# EAGLE library part STM32F4XXIXT (library walkgeek-eagle)
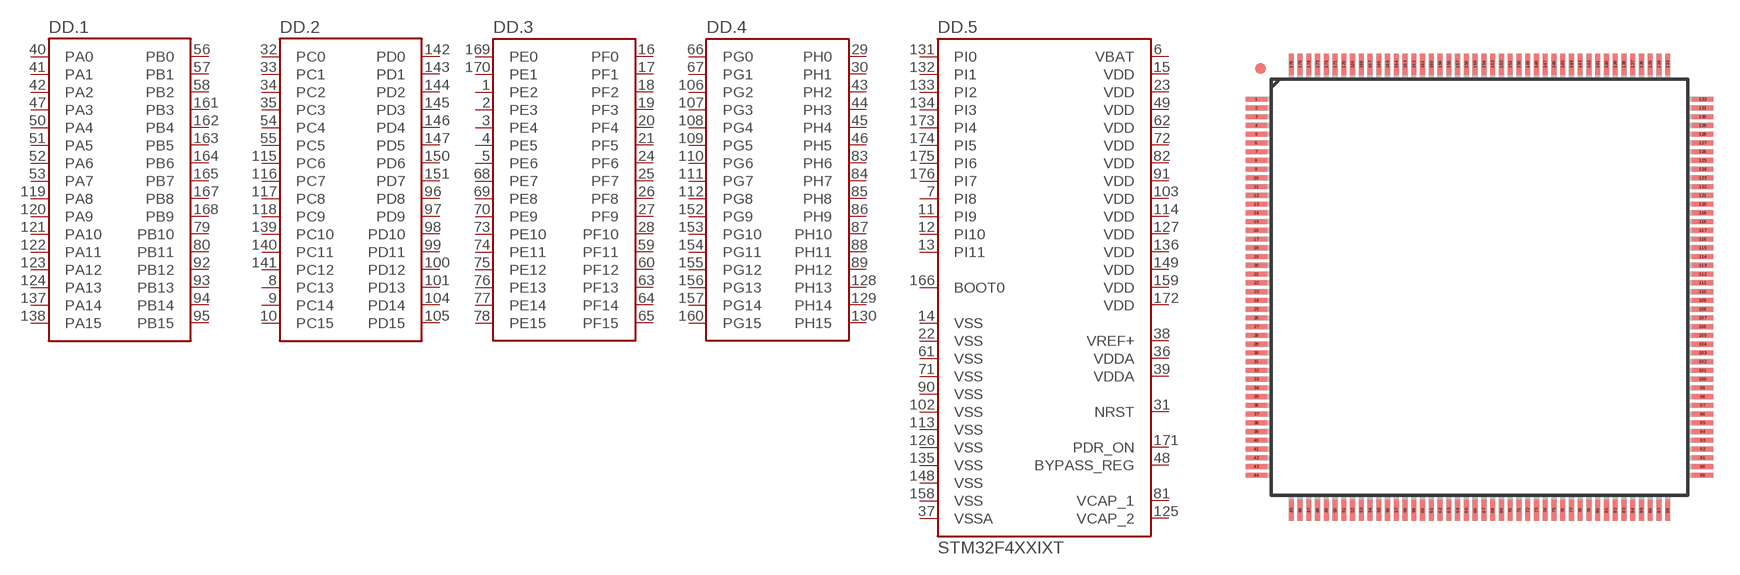
[diagram p7: symbol with the pads of LQFP176; footprint LQFP176]

Designator prefix DD; gates .1=STM32PAPB .2=STM32PCPD .3=STM32PEPF .4=STM32PGPH .5=STM32F4XXIXT_5

## STM32F4XXIXT  [LQFP176]
1  .3:PE2
2  .3:PE3
3  .3:PE4
4  .3:PE5
5  .3:PE6
6  .5:VBAT  pwr
7  .5:PI8
8  .2:PC13
9  .2:PC14
10  .2:PC15
11  .5:PI9
12  .5:PI10
13  .5:PI11
14  .5:VSS  pwr
15  .5:VDD  pwr
16  .3:PF0
17  .3:PF1
18  .3:PF2
19  .3:PF3
20  .3:PF4
21  .3:PF5
22  .5:VSS  pwr
23  .5:VDD  pwr
24  .3:PF6
25  .3:PF7
26  .3:PF8
27  .3:PF9
28  .3:PF10
29  .4:PH0
30  .4:PH1
31  .5:NRST  in
32  .2:PC0
33  .2:PC1
34  .2:PC2
35  .2:PC3
36  .5:VDDA  pwr
37  .5:VSSA  pwr
38  .5:VREF+  in
39  .5:VDDA  pwr
40  .1:PA0
41  .1:PA1
42  .1:PA2
43  .4:PH2
44  .4:PH3
45  .4:PH4
46  .4:PH5
47  .1:PA3
48  .5:BYPASS_REG  in
49  .5:VDD  pwr
50  .1:PA4
51  .1:PA5
52  .1:PA6
53  .1:PA7
54  .2:PC4
55  .2:PC5
56  .1:PB0
57  .1:PB1
58  .1:PB2
59  .3:PF11
60  .3:PF12
61  .5:VSS  pwr
62  .5:VDD  pwr
63  .3:PF13
64  .3:PF14
65  .3:PF15
66  .4:PG0
67  .4:PG1
68  .3:PE7
69  .3:PE8
70  .3:PE9
71  .5:VSS  pwr
72  .5:VDD  pwr
73  .3:PE10
74  .3:PE11
75  .3:PE12
76  .3:PE13
77  .3:PE14
78  .3:PE15
79  .1:PB10
80  .1:PB11
81  .5:VCAP_1  out
82  .5:VDD  pwr
83  .4:PH6
84  .4:PH7
85  .4:PH8
86  .4:PH9
87  .4:PH10
88  .4:PH11
89  .4:PH12
90  .5:VSS  pwr
91  .5:VDD  pwr
92  .1:PB12
93  .1:PB13
94  .1:PB14
95  .1:PB15
96  .2:PD8
97  .2:PD9
98  .2:PD10
99  .2:PD11
100  .2:PD12
101  .2:PD13
102  .5:VSS  pwr
103  .5:VDD  pwr
104  .2:PD14
105  .2:PD15
106  .4:PG2
107  .4:PG3
108  .4:PG4
109  .4:PG5
110  .4:PG6
111  .4:PG7
112  .4:PG8
113  .5:VSS  pwr
114  .5:VDD  pwr
115  .2:PC6
116  .2:PC7
117  .2:PC8
118  .2:PC9
119  .1:PA8
120  .1:PA9
121  .1:PA10
122  .1:PA11
123  .1:PA12
124  .1:PA13
125  .5:VCAP_2  out
126  .5:VSS  pwr
127  .5:VDD  pwr
128  .4:PH13
129  .4:PH14
130  .4:PH15
131  .5:PI0
132  .5:PI1
133  .5:PI2
134  .5:PI3
135  .5:VSS  pwr
136  .5:VDD  pwr
137  .1:PA14
138  .1:PA15
139  .2:PC10
140  .2:PC11
141  .2:PC12
142  .2:PD0
143  .2:PD1
144  .2:PD2
145  .2:PD3
146  .2:PD4
147  .2:PD5
148  .5:VSS  pwr
149  .5:VDD  pwr
150  .2:PD6
151  .2:PD7
152  .4:PG9
153  .4:PG10
154  .4:PG11
155  .4:PG12
156  .4:PG13
157  .4:PG14
158  .5:VSS  pwr
159  .5:VDD  pwr
160  .4:PG15
161  .1:PB3
162  .1:PB4
163  .1:PB5
164  .1:PB6
165  .1:PB7
166  .5:BOOT0  in
167  .1:PB8
168  .1:PB9
169  .3:PE0
170  .3:PE1
171  .5:PDR_ON  in
172  .5:VDD  pwr
173  .5:PI4
174  .5:PI5
175  .5:PI6
176  .5:PI7

## Footprint LQFP176 (pad centres in mm)
LQFP176 Auto generated by make-symbol-device-package-bsdl.ulp Rev. 43
smd 1.2 x 0.26: 1 -12.75,10.75; 2 -12.75,10.25; 3 -12.75,9.75; 4 -12.75,9.25; 5 -12.75,8.75; 6 -12.75,8.25; 7 -12.75,7.75; 8 -12.75,7.25; 9 -12.75,6.75; 10 -12.75,6.25; 11 -12.75,5.75; 12 -12.75,5.25; 13 -12.75,4.75; 14 -12.75,4.25; 15 -12.75,3.75; 16 -12.75,3.25; 17 -12.75,2.75; 18 -12.75,2.25; 19 -12.75,1.75; 20 -12.75,1.25; 21 -12.75,0.75; 22 -12.75,0.25; 23 -12.75,-0.25; 24 -12.75,-0.75; 25 -12.75,-1.25; 26 -12.75,-1.75; 27 -12.75,-2.25; 28 -12.75,-2.75; 29 -12.75,-3.25; 30 -12.75,-3.75; 31 -12.75,-4.25; 32 -12.75,-4.75; 33 -12.75,-5.25; 34 -12.75,-5.75; 35 -12.75,-6.25; 36 -12.75,-6.75; 37 -12.75,-7.25; 38 -12.75,-7.75; 39 -12.75,-8.25; 40 -12.75,-8.75; 41 -12.75,-9.25; 42 -12.75,-9.75; 43 -12.75,-10.25; 44 -12.75,-10.75; 89 12.75,-10.75; 90 12.75,-10.25; 91 12.75,-9.75; 92 12.75,-9.25; 93 12.75,-8.75; 94 12.75,-8.25; 95 12.75,-7.75; 96 12.75,-7.25; 97 12.75,-6.75; 98 12.75,-6.25; 99 12.75,-5.75; 100 12.75,-5.25; 101 12.75,-4.75; 102 12.75,-4.25; 103 12.75,-3.75; 104 12.75,-3.25; 105 12.75,-2.75; 106 12.75,-2.25; 107 12.75,-1.75; 108 12.75,-1.25; 109 12.75,-0.75; 110 12.75,-0.25; 111 12.75,0.25; 112 12.75,0.75; 113 12.75,1.25; 114 12.75,1.75; 115 12.75,2.25; 116 12.75,2.75; 117 12.75,3.25; 118 12.75,3.75; 119 12.75,4.25; 120 12.75,4.75; 121 12.75,5.25; 122 12.75,5.75; 123 12.75,6.25; 124 12.75,6.75; 125 12.75,7.25; 126 12.75,7.75; 127 12.75,8.25; 128 12.75,8.75; 129 12.75,9.25; 130 12.75,9.75; 131 12.75,10.25; 132 12.75,10.75
smd 0.26 x 1.2: 45 -10.75,-12.75; 46 -10.25,-12.75; 47 -9.75,-12.75; 48 -9.25,-12.75; 49 -8.75,-12.75; 50 -8.25,-12.75; 51 -7.75,-12.75; 52 -7.25,-12.75; 53 -6.75,-12.75; 54 -6.25,-12.75; 55 -5.75,-12.75; 56 -5.25,-12.75; 57 -4.75,-12.75; 58 -4.25,-12.75; 59 -3.75,-12.75; 60 -3.25,-12.75; 61 -2.75,-12.75; 62 -2.25,-12.75; 63 -1.75,-12.75; 64 -1.25,-12.75; 65 -0.75,-12.75; 66 -0.25,-12.75; 67 0.25,-12.75; 68 0.75,-12.75; 69 1.25,-12.75; 70 1.75,-12.75; 71 2.25,-12.75; 72 2.75,-12.75; 73 3.25,-12.75; 74 3.75,-12.75; 75 4.25,-12.75; 76 4.75,-12.75; 77 5.25,-12.75; 78 5.75,-12.75; 79 6.25,-12.75; 80 6.75,-12.75; 81 7.25,-12.75; 82 7.75,-12.75; 83 8.25,-12.75; 84 8.75,-12.75; 85 9.25,-12.75; 86 9.75,-12.75; 87 10.25,-12.75; 88 10.75,-12.75; 133 10.75,12.75; 134 10.25,12.75; 135 9.75,12.75; 136 9.25,12.75; 137 8.75,12.75; 138 8.25,12.75; 139 7.75,12.75; 140 7.25,12.75; 141 6.75,12.75; 142 6.25,12.75; 143 5.75,12.75; 144 5.25,12.75; 145 4.75,12.75; 146 4.25,12.75; 147 3.75,12.75; 148 3.25,12.75; 149 2.75,12.75; 150 2.25,12.75; 151 1.75,12.75; 152 1.25,12.75; 153 0.75,12.75; 154 0.25,12.75; 155 -0.25,12.75; 156 -0.75,12.75; 157 -1.25,12.75; 158 -1.75,12.75; 159 -2.25,12.75; 160 -2.75,12.75; 161 -3.25,12.75; 162 -3.75,12.75; 163 -4.25,12.75; 164 -4.75,12.75; 165 -5.25,12.75; 166 -5.75,12.75; 167 -6.25,12.75; 168 -6.75,12.75; 169 -7.25,12.75; 170 -7.75,12.75; 171 -8.25,12.75; 172 -8.75,12.75; 173 -9.25,12.75; 174 -9.75,12.75; 175 -10.25,12.75; 176 -10.75,12.75